# Altium schematic symbol library PCA9515A.SchLib: 1 symbol
Pins are listed as number, name and electrical type; pins without a type are passive.

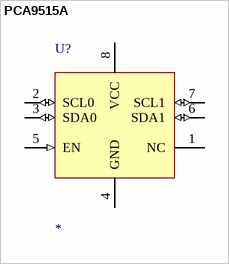
[diagram p0: symbol PCA9515A]

## PCA9515A
designator U?
pins: 1 NC, 2 SCL0 (io), 3 SDA0 (io), 4 GND (power), 5 EN (in), 6 SDA1 (io), 7 SCL1 (io), 8 VCC (power)